# Altium schematic symbol library DX.SchLib: 9 symbols
Pins are listed as number, name and electrical type; pins without a type are passive.

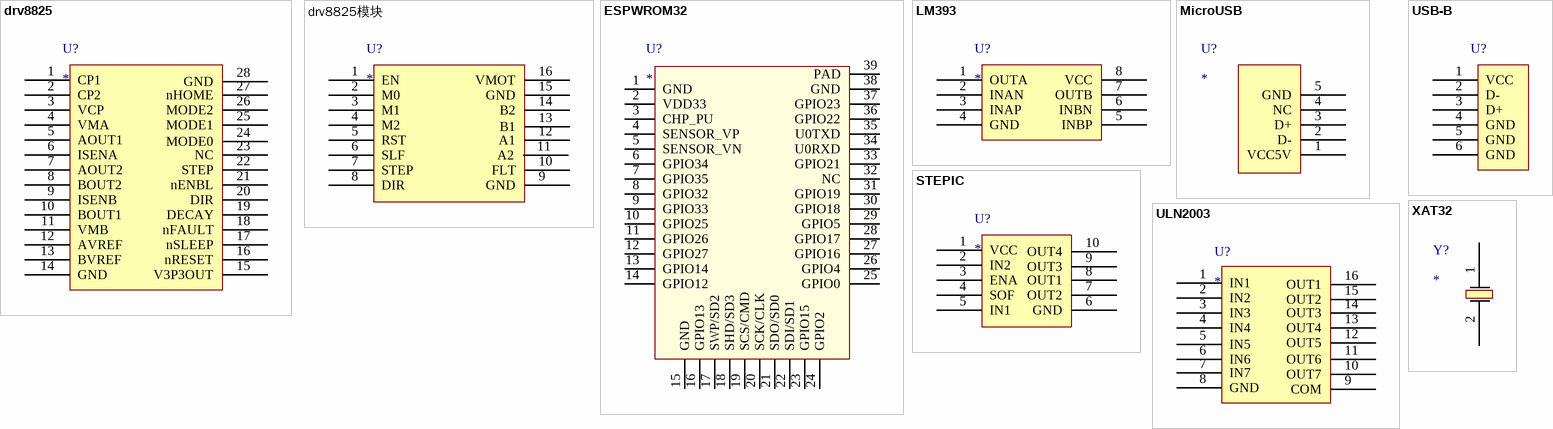
[diagram p0: symbols drv8825 to XAT32]

## drv8825
designator U?
footprint SSOP28
pins: 1 CP1, 2 CP2, 3 VCP, 4 VMA, 5 AOUT1, 6 ISENA, 7 AOUT2, 8 BOUT2, 9 ISENB, 10 BOUT1, 11 VMB, 12 AVREF, 13 BVREF, 14 GND, 15 V3P3OUT, 16 nRESET, 17 nSLEEP, 18 nFAULT, 19 DECAY, 20 DIR, 21 nENBL, 22 STEP, 23 NC, 24 MODE0, 25 MODE1, 26 MODE2, 27 nHOME, 28 GND

## drv8825模块
designator U?
footprint DRV8825模块 - duplicate
pins: 1 EN, 2 M0, 3 M1, 4 M2, 5 RST, 6 SLF, 7 STEP, 8 DIR, 9 GND, 10 FLT, 11 A2, 12 A1, 13 B1, 14 B2, 15 GND, 16 VMOT

## ESPWROM32
designator U?
footprint ESP32模组
pins: 1 GND, 2 VDD33, 3 CHP_PU, 4 SENSOR_VP, 5 SENSOR_VN, 6 GPIO34, 7 GPIO35, 8 GPIO32, 9 GPIO33, 10 GPIO25, 11 GPIO26, 12 GPIO27, 13 GPIO14, 14 GPIO12, 15 GND, 16 GPIO13, 17 SWP/SD2, 18 SHD/SD3, 19 SCS/CMD, 20 SCK/CLK, 21 SDO/SD0, 22 SDI/SD1, 23 GPIO15, 24 GPIO2, 25 GPIO0, 26 GPIO4, 27 GPIO16, 28 GPIO17, 29 GPIO5, 30 GPIO18, 31 GPIO19, 32 NC, 33 GPIO21, 34 U0RXD, 35 U0TXD, 36 GPIO22, 37 GPIO23, 38 GND, 39 PAD

## LM393
designator U?
footprint SOIC8
pins: 1 OUTA, 2 INAN, 3 INAP, 4 GND, 5 INBP, 6 INBN, 7 OUTB, 8 VCC

## MicroUSB
designator U?
footprint MicroUSB
pins: 1 VCC5V, 2 D-, 3 D+, 4 NC, 5 GND

## STEPIC
designator U?
footprint STEPMOTOR
pins: 1 VCC, 2 IN2, 3 ENA, 4 SOF, 5 IN1, 6 GND, 7 OUT2, 8 OUT1, 9 OUT3, 10 OUT4

## ULN2003
designator U?
footprint SOP16M
pins: 1 IN1, 2 IN2, 3 IN3, 4 IN4, 5 IN5, 6 IN6, 7 IN7, 8 GND, 9 COM, 10 OUT7, 11 OUT6, 12 OUT5, 13 OUT4, 14 OUT3, 15 OUT2, 16 OUT1

## USB-B
designator U?  (value not drawn)
footprint USB_B
pins: 1 VCC, 2 D-, 3 D+, 4 GND, 5 GND, 6 GND

## XAT32
designator Y?
footprint XTAL32
pins: 1 VCC, 2 VCC